# EAGLE library part MOTOR_ENCODER (library MOTOR_ENCODER)
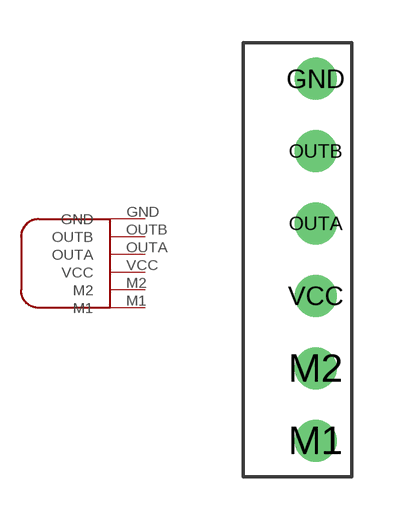
[diagram p0: symbol with the pads of MOTOR_ENCODER; footprint MOTOR_ENCODER]

Designator prefix -

## MOTOR_ENCODER  [MOTOR_ENCODER]
GND  GND
M1  M1
M2  M2
OUTA  OUTA
OUTB  OUTB
VCC  VCC

## Footprint MOTOR_ENCODER (pad centres in mm)
drill 0.965: GND -1.27,3.81; M1 -1.27,-8.89; M2 -1.27,-6.35; OUTA -1.27,-1.27; OUTB -1.27,1.27; VCC -1.27,-3.81